# Altium integrated library Analog Devices Data Converters Analog-to-Digital Converters.IntLib: 2404 symbols (part 310 of 346)
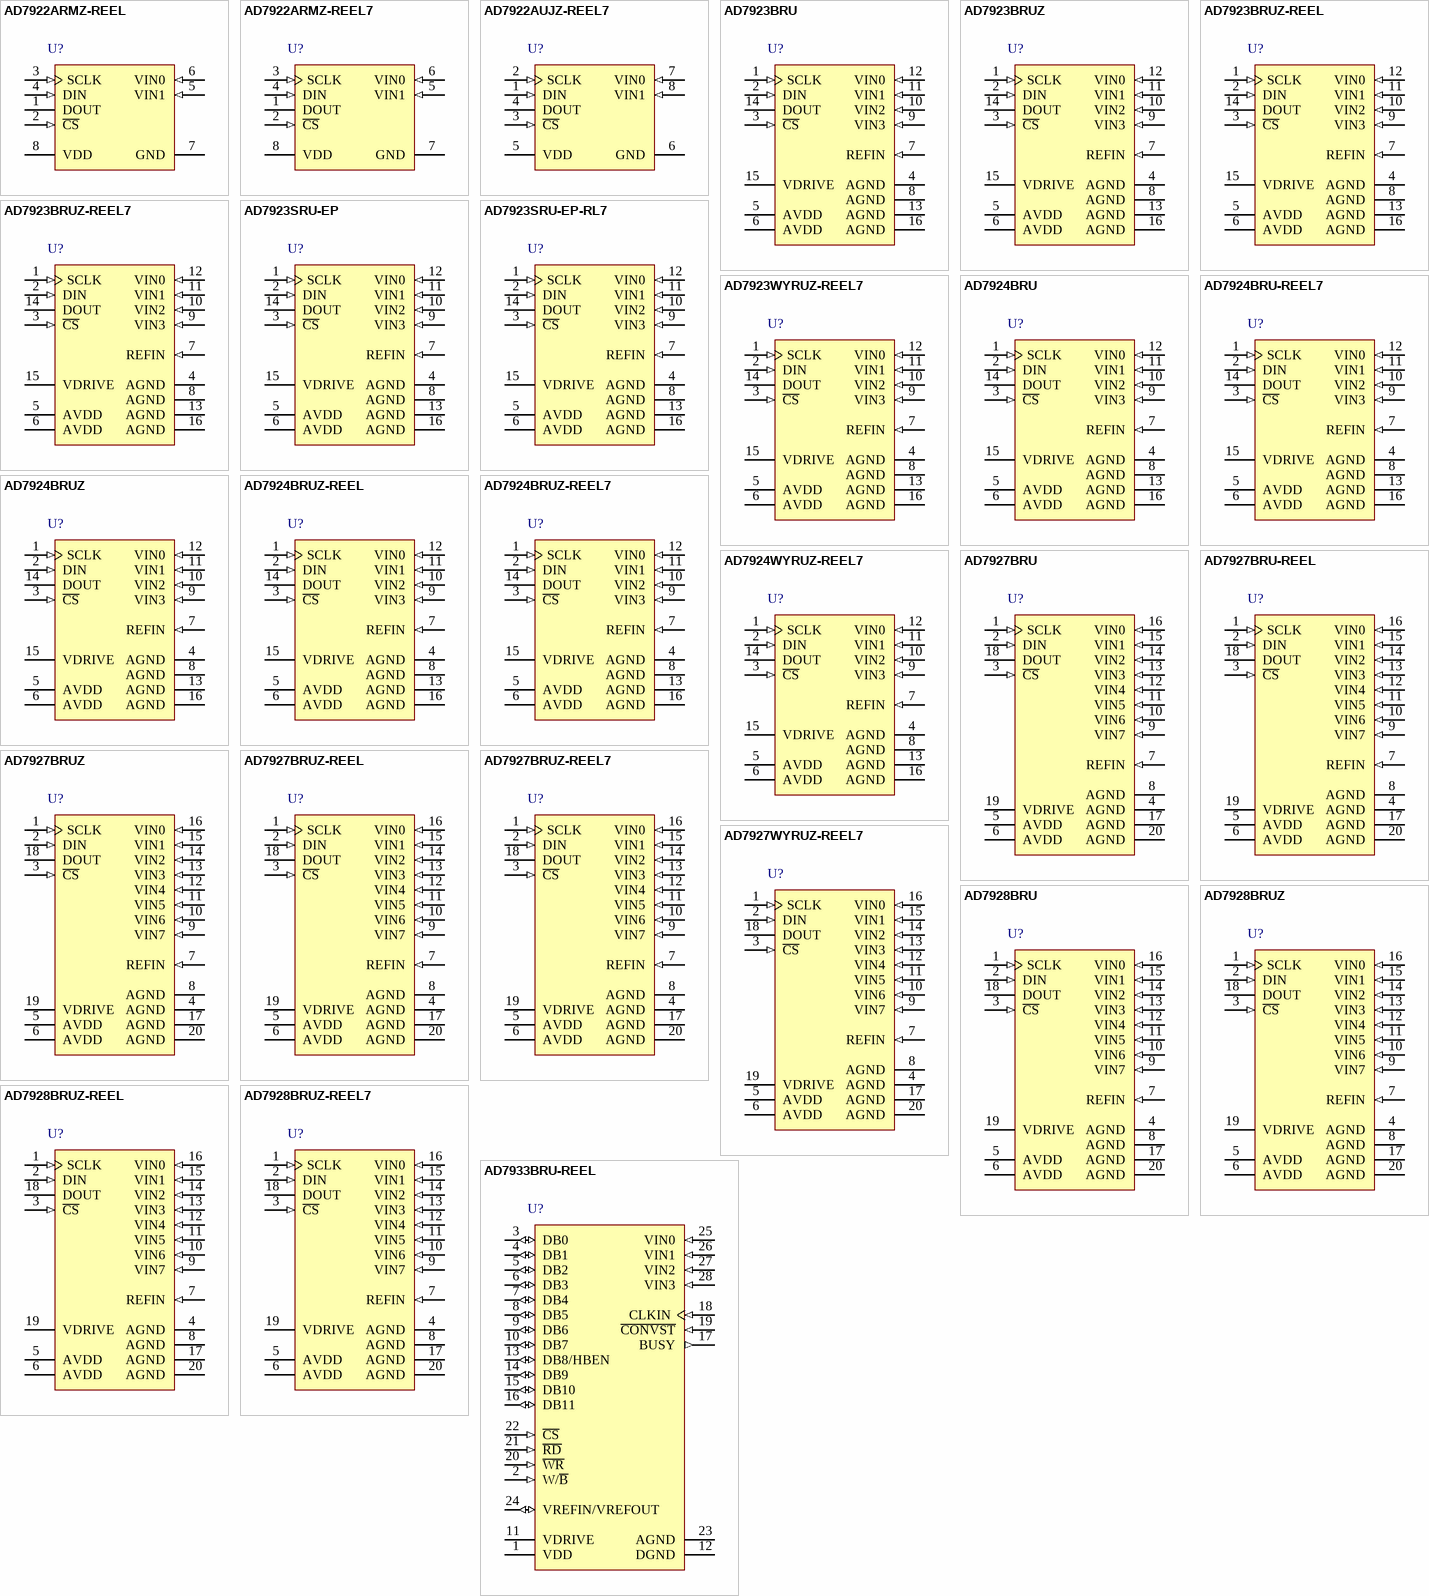
[diagram p420: symbols AD7922ARMZ-REEL to AD7933BRU-REEL]

## AD7928BRUZ
designator U?
Octal 12-Bit Analog-to-Digital Converter with Serial, SPI Interface and Sequencer, 1MSPS, -40 to +85 degC, RU-20, Pb-Free, Tube; Generic Part Number: AD7928; Manufacturer: Analog Devices; PartNumber: AD7928BRUZ; Resolution (Bits): 12; Channels: 8; Throughput Rate (SPS): 1M; Interface: Ser, SPI; Automotive Qualified: Yes; DatasheetVersion: Rev.D; PackageVersion: 2000; PackageReference: RU-20; PackageDescription: 20-Lead Thin Shrink Small Outline Package [TSSOP]; Supplier 1: Digi-Key; Supplier Part Number 1: AD7928BRUZ-ND; Supplier 2: Farnell; Supplier Part Number 2: 1581945; Supplier 3: Newark; Supplier Part Number 3: 19M8863; Supplier 4: Mouser; Supplier Part Number 4: 584-AD7928BRUZ; RoHS: Y; Packing: Tube; Mounting Technology: Surface Mount; Code_JEDEC: MO-153AC; ComponentLink1Description: Manufacturer URL; ComponentLink1URL: http://www.analog.com/en/index.html; ComponentLink2Description: Datasheet; ComponentLink2URL: http://www.analog.com/static/imported-files/data_sheets/AD7908_7918_7928.pdf; ComponentLink3Description: Package Specification; ComponentLink3URL: http://www.analog.com/static/imported-files/packages/364515793657813558433715854054607941441RU20.pdf; ComponentLink4Description: Product URL; ComponentLink4URL: http://www.analog.com/en/analog-to-digital-converters/ad-converters/ad7928/products/product.html
footprint RU-20_N (TSOP, 20-Leads, Body 6.5x4.4mm, Pitch 0.65mm, IPC Medium Density)
footprint RU-20_L (TSOP, 20-Leads, Body 6.5x4.4mm, Pitch 0.65mm, IPC High Density)
footprint RU-20_M (TSOP, 20-Leads, Body 6.5x4.4mm, Pitch 0.65mm, IPC Low Density)
pins: 1 SCLK (in) "Serial Clock. Logic input. SCLK provides the serial clock for accessing data from the part. This clock input is also used as the clock source for the conversion process of the AD7908/AD7918/AD7928.", 2 DIN (in) "Data In. Logic input. Data to be written to the control register of the AD7908/AD7918/AD7928 is provided on this input and is clocked into the register on the falling edge of SCLK (see the Control Register section).", 3 ~{CS} (in) "Chip Select. Active low logic input. This input provides the dual function of initiating conversions on the AD7908/AD7918/AD7928, and also frames the serial data transfer.", 4 AGND (power) "Analog Ground. This is the ground reference point for all analog circuitry on the AD7908/AD7918/AD7928. All analog input signals and any external reference signal should be referred to this AGND voltage. All AGND pins should (See Datasheet)", 5 AVDD (power) "Analog Power Supply Input. The AVDD range for the AD7908/AD7918/AD7928 is from 2.7 V to 5.25 V. For the 0 V to 2 x REFIN range, AVDD should be from 4.75 V to 5.25 V.", 6 AVDD (power) "Analog Power Supply Input. The AVDD range for the AD7908/AD7918/AD7928 is from 2.7 V to 5.25 V. For the 0 V to 2 x REFIN range, AVDD should be from 4.75 V to 5.25 V.", 7 REFIN (in) "Reference Input for the AD7908/AD7918/AD7928. An external reference must be applied to this input. The voltage range for the external reference is 2.5 V +/- 1% for specified performance.", 8 AGND (power) "Analog Ground. This is the ground reference point for all analog circuitry on the AD7908/AD7918/AD7928. All analog input signals and any external reference signal should be referred to this AGND voltage. All AGND pins should (See Datasheet)", 9 VIN7 (in) "Analog Input 0 through Analog Input 7. These are eight single-ended analog input channels that are multiplexed into the on-chip track-and-hold. The analog input channel to be converted is selected by using Address Bit ADD2 (See Datasheet)", 10 VIN6 (in) "Analog Input 0 through Analog Input 7. These are eight single-ended analog input channels that are multiplexed into the on-chip track-and-hold. The analog input channel to be converted is selected by using Address Bit ADD2 (See Datasheet)", 11 VIN5 (in) "Analog Input 0 through Analog Input 7. These are eight single-ended analog input channels that are multiplexed into the on-chip track-and-hold. The analog input channel to be converted is selected by using Address Bit ADD2 (See Datasheet)", 12 VIN4 (in) "Analog Input 0 through Analog Input 7. These are eight single-ended analog input channels that are multiplexed into the on-chip track-and-hold. The analog input channel to be converted is selected by using Address Bit ADD2 (See Datasheet)", 13 VIN3 (in) "Analog Input 0 through Analog Input 7. These are eight single-ended analog input channels that are multiplexed into the on-chip track-and-hold. The analog input channel to be converted is selected by using Address Bit ADD2 (See Datasheet)", 14 VIN2 (in) "Analog Input 0 through Analog Input 7. These are eight single-ended analog input channels that are multiplexed into the on-chip track-and-hold. The analog input channel to be converted is selected by using Address Bit ADD2 (See Datasheet)", 15 VIN1 (in) "Analog Input 0 through Analog Input 7. These are eight single-ended analog input channels that are multiplexed into the on-chip track-and-hold. The analog input channel to be converted is selected by using Address Bit ADD2 (See Datasheet)", 16 VIN0 (in) "Analog Input 0 through Analog Input 7. These are eight single-ended analog input channels that are multiplexed into the on-chip track-and-hold. The analog input channel to be converted is selected by using Address Bit ADD2 (See Datasheet)", 17 AGND (power) "Analog Ground. This is the ground reference point for all analog circuitry on the AD7908/AD7918/AD7928. All analog input signals and any external reference signal should be referred to this AGND voltage. All AGND pins should (See Datasheet)", 18 DOUT (hiz) "Data Out. Logic output. The conversion result from the AD7908/AD7918/AD7928 is provided on this output as a serial data stream. The bits are clocked out on the falling edge of the SCLK input. The data stream from the AD7908 (See Datasheet)", 19 VDRIVE (power) "Logic Power Supply Input. The voltage supplied at this pin determines at what voltage the serial interface of the AD7908/AD7918/AD7928 operates.", 20 AGND (power) "Analog Ground. This is the ground reference point for all analog circuitry on the AD7908/AD7918/AD7928. All analog input signals and any external reference signal should be referred to this AGND voltage. All AGND pins should (See Datasheet)"